# Altium schematic symbol library SINGLE_DIODES.SchLib: 2 symbols
Pins are listed as number, name and electrical type; pins without a type are passive.

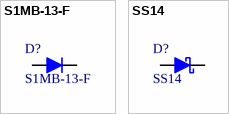
[diagram p0: symbols S1MB-13-F to SS14]

## S1MB-13-F
designator D?
VR=1000V IF=1A 10pF Trr=3us; Manufacturer: Diodes; Forward Current: 1A; Reverse Recovery Time: 3us; Peak Non-Repetitive Surge Current: 30A; Forward Voltage: 1.1V; Max Reverse Current: 5uA; Max Reverse Voltage (DC): 1kV; Recovery Time: 1.8us; Polarity: Standard; Supplier: Digi-Key; Supplier Part Number: S1MB-FDICT-ND; Manufacturer Part Number: S1MB-13-F; RoHS: Yes; Category: Rectifier Diodes; Stock: 1591951; Pricing: 1=0.38, 10=0.314, 100=0.1667, 500=0.1097, 1000=0.07459 (USD); Mounting Technology: Surface Mount; Case/Package: SMB; Pins: 2; Weight: 0.00328oz; Min Operating Temperature: -65°C; Max Operating Temperature: 150°C; Packaging: Tape and Reel; Series: -; Package Quantity: 3000; Average Rectified Current: 1A; Output Current: 1A; Max Surge Current: 30A; Reverse Voltage (DC): 1kV; Max Repetitive Reverse Voltage (Vrrm): 1kV; Voltage Rating (DC): 1kV; Current Rating: 1A; Value: 10pF; Termination: SMD/SMT; Length: 4.57mm; Width: 3.94mm; Height: 2.42mm; Radiation Hardening: No; RoHS Compliant: Yes; Lead Free: Lead Free; ComponentLink1URL: https://datasheet.ciiva.com/912/ds16003-912422.pdf?src-supplier=Digi-Key; ComponentLink1Description: https://datasheet.ciiva.com/912/ds16003-912422.pdf?src-supplier=Digi-Key; ComponentLink2URL: https://datasheet.ciiva.com/912/ds16003-912423.pdf?src-supplier=Digi-Key; ComponentLink2Description: https://datasheet.ciiva.com/912/ds16003-912423.pdf?src-supplier=Digi-Key
footprint S1MB-13-F
pins: 1 A, 2 K

## SS14
designator D?
SS14 Series 500 mV 1 A 40 V Max Reverse Voltage Schottky Rectifier - DO-214AC; Manufacturer: ON Semiconductor / Fairchild; Max Repetitive Reverse Voltage (Vrrm): 40V; Max Forward Surge Current (Ifsm): 40A; Average Rectified Current: 1A; Max Reverse Current: 200uA; Forward Voltage: 500mV; Polarity: Standard; Supplier: Digi-Key; Supplier Part Number: SS14CT-ND; Manufacturer Part Number: SS14; RoHS: Yes; Category: Schottky Diodes; Stock: 45170; Pricing: 1=0.51, 10=0.377, 100=0.2132, 500=0.1412, 1000=0.10825, 2000=0.09413 (USD); Mounting Technology: Surface Mount; Case/Package: DO-214AC; Pins: 2; Weight: 0.003739oz; Min Operating Temperature: -65°C; Max Operating Temperature: 125°C; Packaging: Tape and Reel; Package Quantity: 7500; Series: -; Max Reverse Voltage (DC): 40V; Forward Current: 1A; Peak Non-Repetitive Surge Current: 40A; Termination: SMD/SMT; Voltage Rating (DC): 40V; Current Rating: 1A; Output Current: 1A; Current: 1A; Voltage: 40V; Length: 4.75mm; Width: 2.95mm; Height: 2.2mm; Radiation Hardening: No; RoHS Compliant: Yes; Reach SVHC Compliant: No; ComponentLink1URL: https://datasheet.ciiva.com/4713/ss14-197224-4713938.pdf?src-supplier=Mouser; ComponentLink1Description: https://datasheet.ciiva.com/4713/ss14-197224-4713938.pdf?src-supplier=Mouser; ComponentLink2URL: https://datasheet.ciiva.com/7965/1766303-7965241.pdf?src-supplier=Element14; ComponentLink2Description: https://datasheet.ciiva.com/7965/1766303-7965241.pdf?src-supplier=Element14; ComponentLink3URL: https://datasheet.ciiva.com/22651/1880990-22651980.pdf?src-supplier=Element14; ComponentLink3Description: https://datasheet.ciiva.com/22651/1880990-22651980.pdf?src-supplier=Element14; ComponentLink4URL: https://datasheet.ciiva.com/8303/ss19-8303766.pdf?src-supplier=Avnet; ComponentLink4Description: https://datasheet.ciiva.com/8303/ss19-8303766.pdf?src-supplier=Avnet; ComponentLink5URL: https://datasheet.ciiva.com/910/ss12-910696.pdf?src-supplier=Digi-Key; ComponentLink5Description: https://datasheet.ciiva.com/910/ss12-910696.pdf?src-supplier=Digi-Key; ComponentLink6URL: https://datasheet.ciiva.com/910/ss12-910697.pdf?src-supplier=Digi-Key; ComponentLink6Description: https://datasheet.ciiva.com/910/ss12-910697.pdf?src-supplier=Digi-Key; ComponentLink7URL: https://datasheet.ciiva.com/910/ss12-910695.pdf?src-supplier=Digi-Key; ComponentLink7Description: https://datasheet.ciiva.com/910/ss12-910695.pdf?src-supplier=Digi-Key
footprint SS14
pins: 1 A, 2 K